# Altium footprint library PcbLib1.PcbLib: 1 footprints
Each footprint in its own frame and in the unit in brackets; x right, y up, seen from the top. Pads: shape width x height; smd on the part's side, far side on the other; paste and mask are expansions set on the pad; w line width, h text height; cw(c..) or ccw(c..) is an arc to the next point about the centre after c.
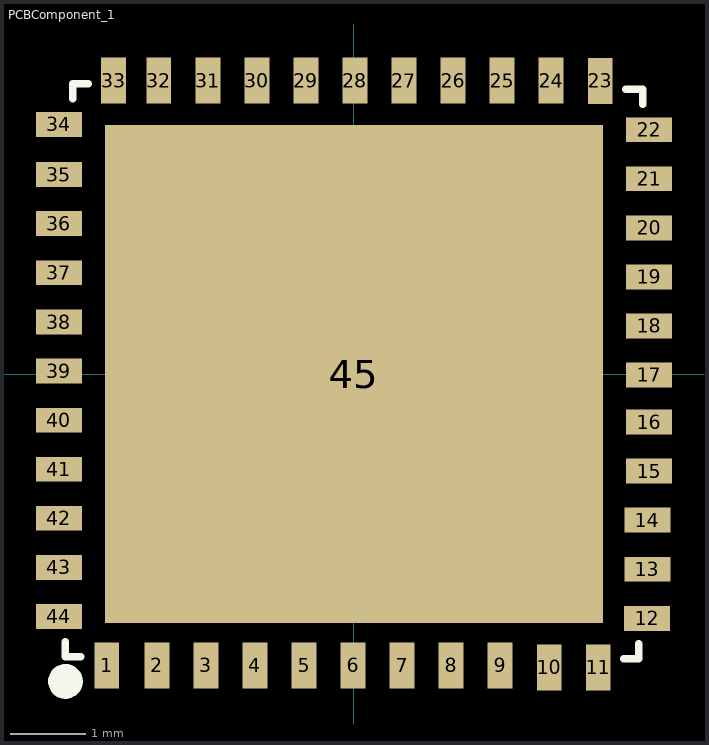
[diagram p0: the footprint, top view; thin cyan lines are the x and y axes]

## PCBComponent_1 [mm]
pads (45):
  rect 0.33x0.61 smd: 1(-3.277,-3.861) 2(-2.612,-3.862) 3(-1.962,-3.862) 4(-1.312,-3.862) 5(-0.662,-3.862) 6(-0.012,-3.862) 7(0.638,-3.862) 8(1.288,-3.862) 9(1.938,-3.862) 10(2.588,-3.888) 11(3.238,-3.888) 23(3.264,3.887) 24(2.612,3.888) 25(1.963,3.888) 26(1.312,3.888) 27(0.663,3.888) 28(0.012,3.888) 29(-0.637,3.888) 30(-1.288,3.888) 31(-1.937,3.888) 32(-2.588,3.888) 33(-3.187,3.888)
  rect 0.61x0.33 smd: 12(3.887,-3.238) 13(3.888,-2.587) 14(3.888,-1.937) 15(3.913,-1.287) 16(3.913,-0.637) 17(3.913,-0.012) 18(3.913,0.638) 19(3.913,1.288) 20(3.913,1.938) 21(3.913,2.588) 22(3.913,3.238) 34(-3.912,3.308) 35(-3.912,2.643) 36(-3.912,1.993) 37(-3.912,1.343) 38(-3.912,0.688) 39(-3.912,0.038) 40(-3.912,-0.612) 41(-3.912,-1.262) 42(-3.912,-1.912) 43(-3.912,-2.562) 44(-3.911,-3.213)
  rect 6.6x6.6 smd: 45(0,0)
Top Overlay:
  circle w0.254: c-3.825,-4.075 r0.103
  lines w0.1: -3.825,-3.55 -3.825,-3.75 -3.625,-3.75 ; -3.725,3.65 -3.725,3.85 -3.525,3.85 ; 3.575,-3.775 3.775,-3.775 3.775,-3.575 ; 3.6,3.775 3.825,3.775 3.825,3.575
3D body "QFN44_8x8MC_MCH.step": height 0.99, standoff 0, extent -4.008,-3.996 3.992,4.004